# Altium footprint library BME680.PcbLib: 1 footprints
Each footprint in its own frame and in the unit in brackets; x right, y up, seen from the top. Pads: shape width x height; smd on the part's side, far side on the other; paste and mask are expansions set on the pad; w line width, h text height; cw(c..) or ccw(c..) is an arc to the next point about the centre after c.
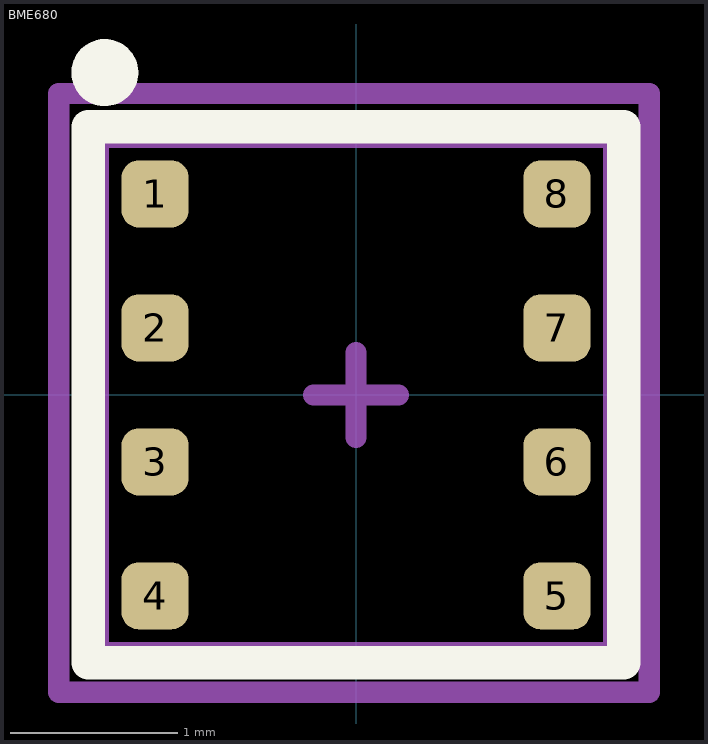
[diagram p0: the footprint, top view; thin cyan lines are the x and y axes]

## BME680 [mm]
pads (8):
  rrect50% 0.4x0.4 smd mask+0.1: 1(-1.2,1.2) 2(-1.2,0.4) 3(-1.2,-0.4) 4(-1.2,-1.2) 5(1.2,-1.2) 6(1.2,-0.4) 7(1.2,0.4) 8(1.2,1.2)
Top Overlay:
  circle w0.2: c-1.5,1.925 r0.1
  lines w0.2: -1.6,-1.6 -1.6,1.6 1.6,1.6 1.6,-1.6 -1.6,-1.6
Mechanical 13:
  lines w0.051: -1.501,-1.501 1.499,-1.501 1.499,1.499 -1.501,1.499 -1.501,-1.501
Mechanical 15:
  lines w0.127: -0.254,0 0.254,0 ; 0,-0.254 0,0.254 ; -1.775,-1.775 1.751,-1.775 1.751,1.8 -1.775,1.8 -1.775,-1.775
Mechanical 17:
  text "'.Designator'" at -1.043,1.823 h0.2
3D body "User Library-BME680.STEP": height 0.95, standoff 0, extent -1.501,-1.501 1.499,1.499